# EAGLE library part 24LC00/SN (library Microchip-24LCxxx)
IC, EEPROM, 128BIT, SERIAL 400KHZ SOIC-8
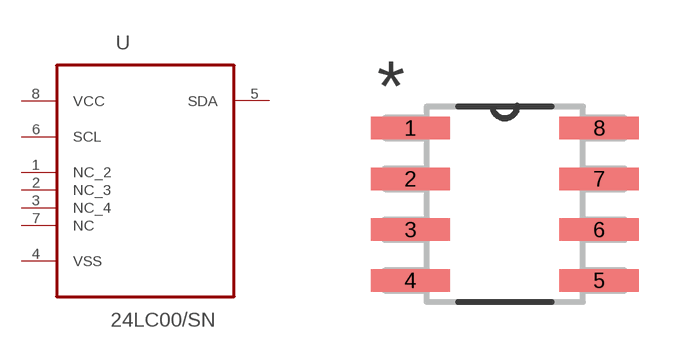
[diagram p0: symbol with the pads of SOIC127P600X175-8N; footprint SOIC127P600X175-8N]

Designator prefix -

## 24LC00/SN (MPN: 24LC00/SN; OC_FARNELL: 1137303; OC_NEWARK: 69K7667; PACKAGE: SOIC-8; SUPPLIER: Microchip)  [SOIC127P600X175-8N]
1  NC_2  nc
2  NC_3  nc
3  NC_4  nc
4  VSS  pwr
5  SDA
6  SCL  in
7  NC  nc
8  VCC  pwr

## Footprint SOIC127P600X175-8N (pad centres in mm)
smd 1.981 x 0.559: 1 -2.362,1.905; 2 -2.362,0.635; 3 -2.362,-0.635; 4 -2.362,-1.905; 5 2.362,-1.905; 6 2.362,-0.635; 7 2.362,0.635; 8 2.362,1.905